# Altium integrated library STM32.IntLib: 732 symbols (part 11 of 99)
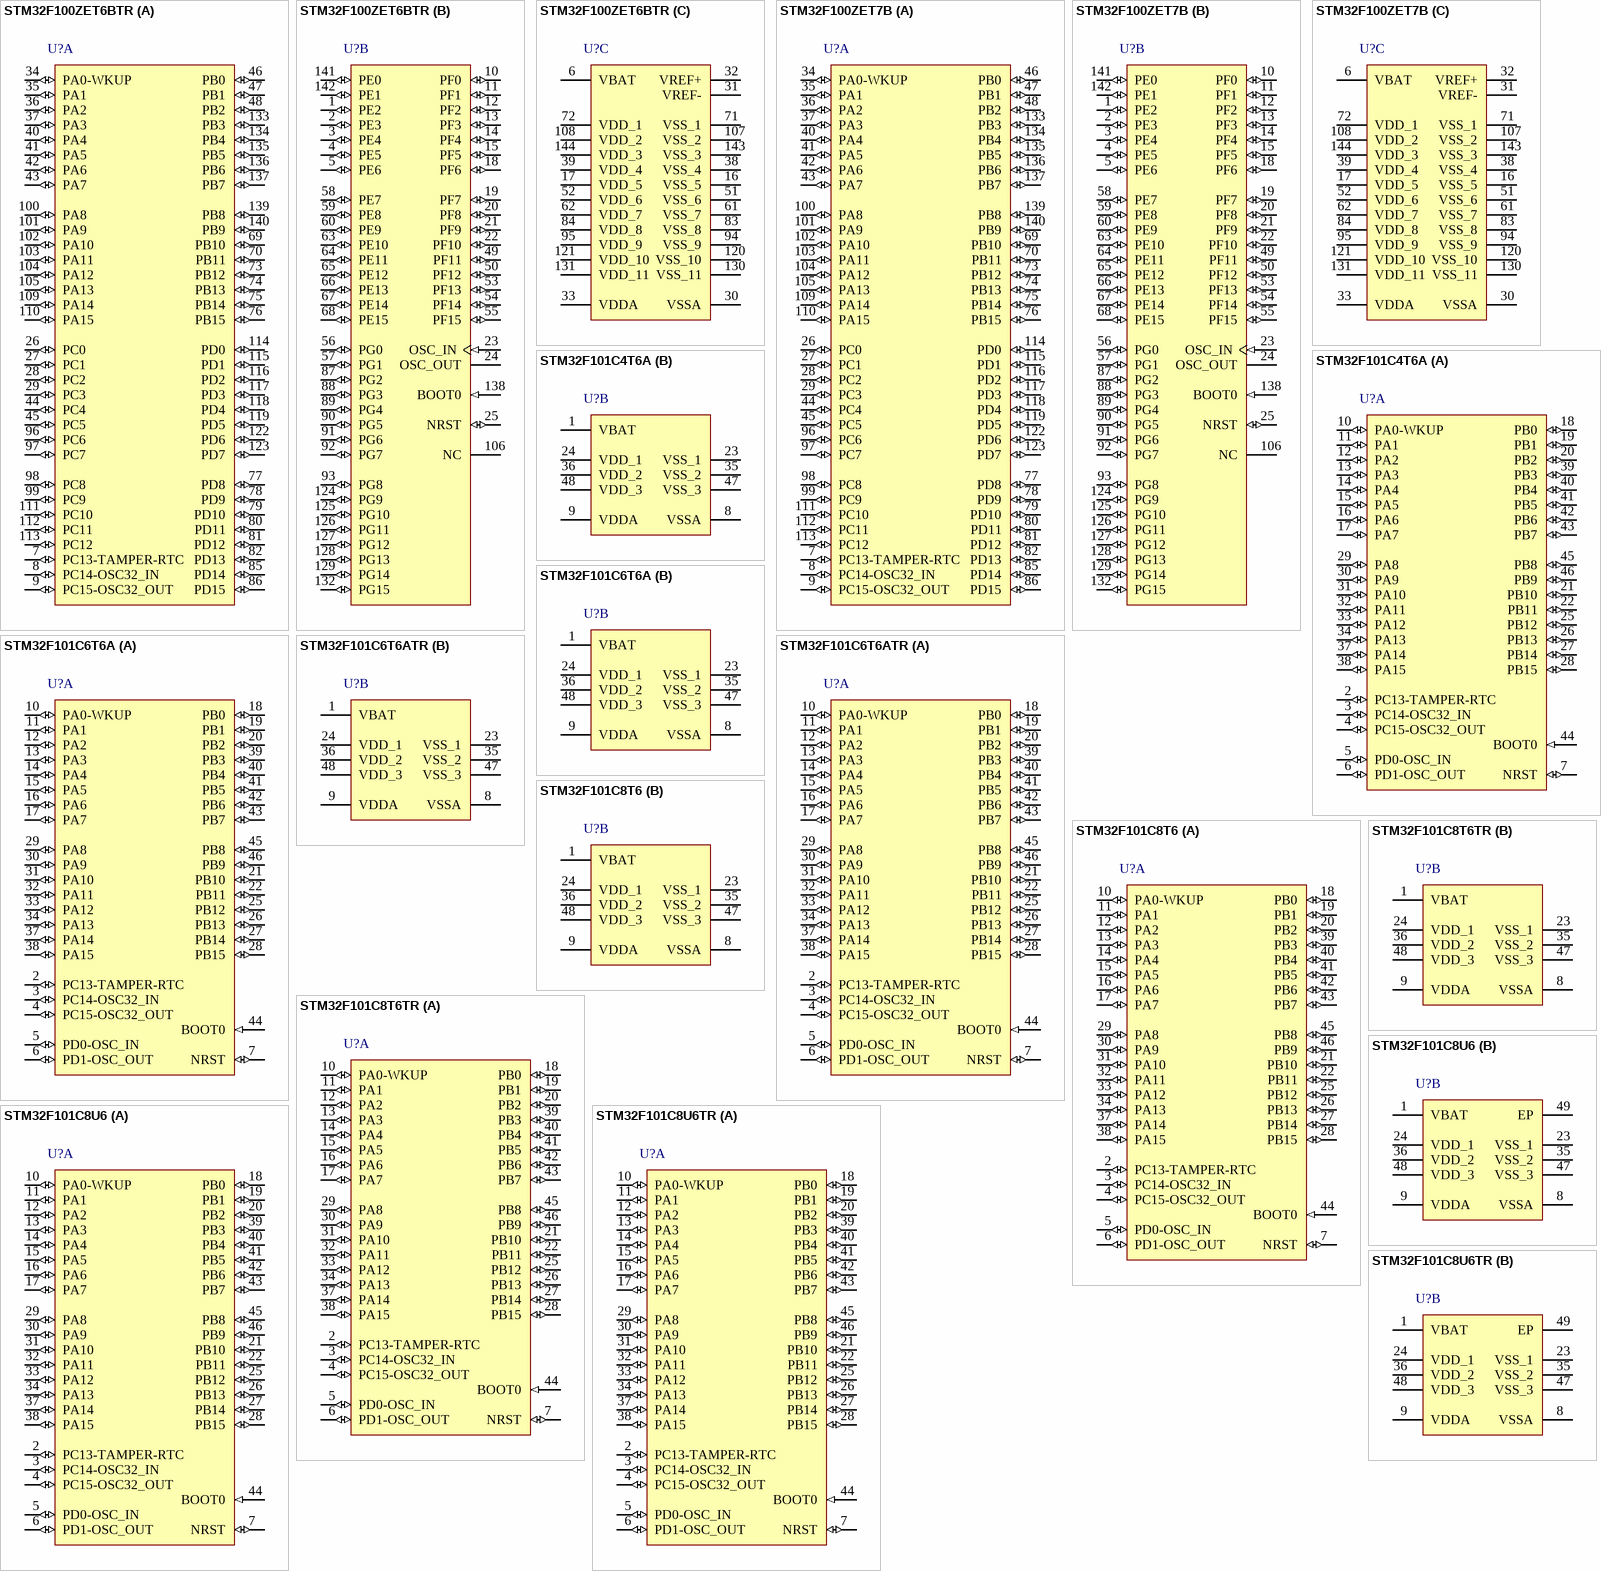
[diagram p164: symbols STM32F100ZET6BTR to STM32F101C8U6TR]

## STM32F101C8U6
designator U?
ARM Cortex-M3 32-bit MCU, 64 KB Flash, 10 KB Internal RAM, 37 I/Os, 48-pin UFQFPN, -40 to 85 degC, Tray; PartNumber: STM32F101C8U6; A/D Converter: 1x12-bit (10 Channel); FLASH Size (Prog) (kB): 64; I/Os (High Current): 37; Internal RAM Size (kB): 10; Operating Frequency(F) (Processor speed) (MHz): 36; Supply Voltage(Vcc) min (V): 2; DatasheetVersion: Rev. 16; PackageVersion: Rev. 1, 04/2013; PackageReference: UFQFPN48; PackageDescription: 48-Pin Ultra Thin Fine Pitch Quad Flat No-Lead, 7 x 7 x 0.6 mm Body, 0.5 mm Pitch, Exposed Pad; Supplier 1: Digi-Key; Supplier Part Number 1: 497-11506-ND; Supplier 2: Farnell; Supplier Part Number 2: 1899005; Supplier 3: Newark; Supplier Part Number 3: 72T2638; Supplier 4: Mouser; Supplier Part Number 4: 511-STM32F101C8U6; Core: ARM Cortex-M3; Packing: Tray; Mounting Technology: Surface Mount; ComponentLink1Description: Manufacturer URL; ComponentLink1URL: http://www.st.com/web/en/home.html; ComponentLink2Description: Datasheet; ComponentLink2URL: http://www.st.com/st-web-ui/static/active/en/resource/technical/document/datasheet/CD00161561.pdf; ComponentLink3Description: Package Specification; ComponentLink3URL: http://www.st.com/st-web-ui/static/active/en/resource/technical/document/data_brief/DM00071938.pdf
footprint STM-UFQFPN48_N (QFN, 48-Leads, Body 7.1x7.1mm, Pitch 0.5mm, Thermal Pad 5.6x5.6mm, IPC Medium Density)
footprint STM-UFQFPN48_L (QFN, 48-Leads, Body 7.1x7.1mm, Pitch 0.5mm, Thermal Pad 5.6x5.6mm, IPC High Density)
footprint STM-UFQFPN48_M (QFN, 48-Leads, Body 7.1x7.1mm, Pitch 0.5mm, Thermal Pad 5.6x5.6mm, IPC Low Density)
part A pins: 2 PC13-TAMPER-RTC (io) "PC13-TAMPER-RTC/PC13/TAMPER-RTC", 3 PC14-OSC32_IN (io) "PC14-OSC32_IN/PC14/OSC32_IN", 4 PC15-OSC32_OUT (io) "PC15-OSC32_OUT/PC15/OSC32_OUT", 5 PD0-OSC_IN (io) "PD0/OSC_IN", 6 PD1-OSC_OUT (io) "PD1/OSC_OUT", 7 NRST (io), 10 PA0-WKUP (io) "PA0-WKUP/PA0/WKUP/USART2_CTS/ADC_IN0/TIM2_CH1_ETR", 11 PA1 (io) "PA1/USART2_RTS/ADC_IN1/TIM2_CH2", 12 PA2 (io) "PA2/USART2_TX/ADC_IN2/TIM2_CH3", 13 PA3 (io) "PA3/USART2_RX/ADC_IN3/TIM2_CH4", 14 PA4 (io) "PA4/SPI1_NSS/ADC_IN4/USART2_CK", 15 PA5 (io) "PA5/SPI1_SCK/ADC_IN5", 16 PA6 (io) "PA6/SPI1_MISO/ADC_IN6/TIM3_CH1", 17 PA7 (io) "PA7/SPI1_MOSI/ADC_IN7/TIM3_CH2", 18 PB0 (io) "PB0/ADC_IN8/TIM3_CH3", 19 PB1 (io) "PB1/ADC_IN9/TIM3_CH4", 20 PB2 (io) "PB2/BOOT1", 21 PB10 (io) "PB10/I2C2_SCL/USART3_TX/TIM2_CH3", 22 PB11 (io) "PB11/I2C2_SDA/USART3_RX/TIM2_CH4", 25 PB12 (io) "PB12/SPI2_NSS/I2C2_SMBA/USART3_CK", 26 PB13 (io) "PB13/SPI2_SCK/USART3_CTS", 27 PB14 (io) "PB14/SPI2_MISO/USART3_RTS", 28 PB15 (io) "PB15/SPI2_MOSI", 29 PA8 (io) "PA8/USART1_CK/MCO", 30 PA9 (io) "PA9/USART1_TX", 31 PA10 (io) "PA10/USART1_RX", 32 PA11 (io) "PA11/USART1_CTS", 33 PA12 (io) "PA12/USART1_RTS", 34 PA13 (io) "PA13/JTMS-SWDIO", 37 PA14 (io) "PA14/JTCK/SWCLK", 38 PA15 (io) "PA15/JTDI/TIM2_CH1_ETR/SPI1_NSS", 39 PB3 (io) "PB3/JTDO/TIM2_CH2/TRACESWO/SPI1_SCK", 40 PB4 (io) "PB4/NJTRST/TIM3_CH1/SPI1_MISO", 41 PB5 (io) "PB5/I2C1_SMBAI/TIM3_CH2/SPI1_MOSI", 42 PB6 (io) "PB6/I2C1_SCL/TIM4_CH1/USART1_TX", 43 PB7 (io) "PB7/I2C1_SDA/TIM4_CH2/USART1_RX", 44 BOOT0 (in), 45 PB8 (io) "PB8/TIM4_CH3/I2C1_SCL", 46 PB9 (io) "PB9/TIM4_CH4/I2C1_SDA"
part B pins: 1 VBAT (power), 8 VSSA (power), 9 VDDA (power), 23 VSS_1 (power), 24 VDD_1 (power), 35 VSS_2 (power), 36 VDD_2 (power), 47 VSS_3 (power), 48 VDD_3 (power), 49 EP (power) "Exposed Pad"

## STM32F101C8U6TR
designator U?
ARM Cortex-M3 32-bit MCU, 64 KB Flash, 10 KB Internal RAM, 37 I/Os, 48-pin UFQFPN, -40 to 85 degC, Tape and Reel; PartNumber: STM32F101C8U6TR; A/D Converter: 1x12-bit (10 Channel); FLASH Size (Prog) (kB): 64; I/Os (High Current): 37; Internal RAM Size (kB): 10; Operating Frequency(F) (Processor speed) (MHz): 36; Supply Voltage(Vcc) min (V): 2; DatasheetVersion: Rev. 16; PackageVersion: Rev. 1, 04/2013; PackageReference: UFQFPN48; PackageDescription: 48-Pin Ultra Thin Fine Pitch Quad Flat No-Lead, 7 x 7 x 0.6 mm Body, 0.5 mm Pitch, Exposed Pad; Supplier 1: Digi-Key; Supplier Part Number 1: STM32F101C8U6TR-ND; Supplier 2: Mouser; Supplier Part Number 2: 511-STM32F101C8U6TR; Core: ARM Cortex-M3; Packing: Tape and Reel; Mounting Technology: Surface Mount; ComponentLink1Description: Manufacturer URL; ComponentLink1URL: http://www.st.com/web/en/home.html; ComponentLink2Description: Datasheet; ComponentLink2URL: http://www.st.com/st-web-ui/static/active/en/resource/technical/document/datasheet/CD00161561.pdf; ComponentLink3Description: Package Specification; ComponentLink3URL: http://www.st.com/st-web-ui/static/active/en/resource/technical/document/data_brief/DM00071938.pdf
footprint STM-UFQFPN48_N (QFN, 48-Leads, Body 7.1x7.1mm, Pitch 0.5mm, Thermal Pad 5.6x5.6mm, IPC Medium Density)
footprint STM-UFQFPN48_L (QFN, 48-Leads, Body 7.1x7.1mm, Pitch 0.5mm, Thermal Pad 5.6x5.6mm, IPC High Density)
footprint STM-UFQFPN48_M (QFN, 48-Leads, Body 7.1x7.1mm, Pitch 0.5mm, Thermal Pad 5.6x5.6mm, IPC Low Density)
part A pins: 2 PC13-TAMPER-RTC (io) "PC13-TAMPER-RTC/PC13/TAMPER-RTC", 3 PC14-OSC32_IN (io) "PC14-OSC32_IN/PC14/OSC32_IN", 4 PC15-OSC32_OUT (io) "PC15-OSC32_OUT/PC15/OSC32_OUT", 5 PD0-OSC_IN (io) "PD0/OSC_IN", 6 PD1-OSC_OUT (io) "PD1/OSC_OUT", 7 NRST (io), 10 PA0-WKUP (io) "PA0-WKUP/PA0/WKUP/USART2_CTS/ADC_IN0/TIM2_CH1_ETR", 11 PA1 (io) "PA1/USART2_RTS/ADC_IN1/TIM2_CH2", 12 PA2 (io) "PA2/USART2_TX/ADC_IN2/TIM2_CH3", 13 PA3 (io) "PA3/USART2_RX/ADC_IN3/TIM2_CH4", 14 PA4 (io) "PA4/SPI1_NSS/ADC_IN4/USART2_CK", 15 PA5 (io) "PA5/SPI1_SCK/ADC_IN5", 16 PA6 (io) "PA6/SPI1_MISO/ADC_IN6/TIM3_CH1", 17 PA7 (io) "PA7/SPI1_MOSI/ADC_IN7/TIM3_CH2", 18 PB0 (io) "PB0/ADC_IN8/TIM3_CH3", 19 PB1 (io) "PB1/ADC_IN9/TIM3_CH4", 20 PB2 (io) "PB2/BOOT1", 21 PB10 (io) "PB10/I2C2_SCL/USART3_TX/TIM2_CH3", 22 PB11 (io) "PB11/I2C2_SDA/USART3_RX/TIM2_CH4", 25 PB12 (io) "PB12/SPI2_NSS/I2C2_SMBA/USART3_CK", 26 PB13 (io) "PB13/SPI2_SCK/USART3_CTS", 27 PB14 (io) "PB14/SPI2_MISO/USART3_RTS", 28 PB15 (io) "PB15/SPI2_MOSI", 29 PA8 (io) "PA8/USART1_CK/MCO", 30 PA9 (io) "PA9/USART1_TX", 31 PA10 (io) "PA10/USART1_RX", 32 PA11 (io) "PA11/USART1_CTS", 33 PA12 (io) "PA12/USART1_RTS", 34 PA13 (io) "PA13/JTMS-SWDIO", 37 PA14 (io) "PA14/JTCK/SWCLK", 38 PA15 (io) "PA15/JTDI/TIM2_CH1_ETR/SPI1_NSS", 39 PB3 (io) "PB3/JTDO/TIM2_CH2/TRACESWO/SPI1_SCK", 40 PB4 (io) "PB4/NJTRST/TIM3_CH1/SPI1_MISO", 41 PB5 (io) "PB5/I2C1_SMBAI/TIM3_CH2/SPI1_MOSI", 42 PB6 (io) "PB6/I2C1_SCL/TIM4_CH1/USART1_TX", 43 PB7 (io) "PB7/I2C1_SDA/TIM4_CH2/USART1_RX", 44 BOOT0 (in), 45 PB8 (io) "PB8/TIM4_CH3/I2C1_SCL", 46 PB9 (io) "PB9/TIM4_CH4/I2C1_SDA"
part B pins: 1 VBAT (power), 8 VSSA (power), 9 VDDA (power), 23 VSS_1 (power), 24 VDD_1 (power), 35 VSS_2 (power), 36 VDD_2 (power), 47 VSS_3 (power), 48 VDD_3 (power), 49 EP (power) "Exposed Pad"

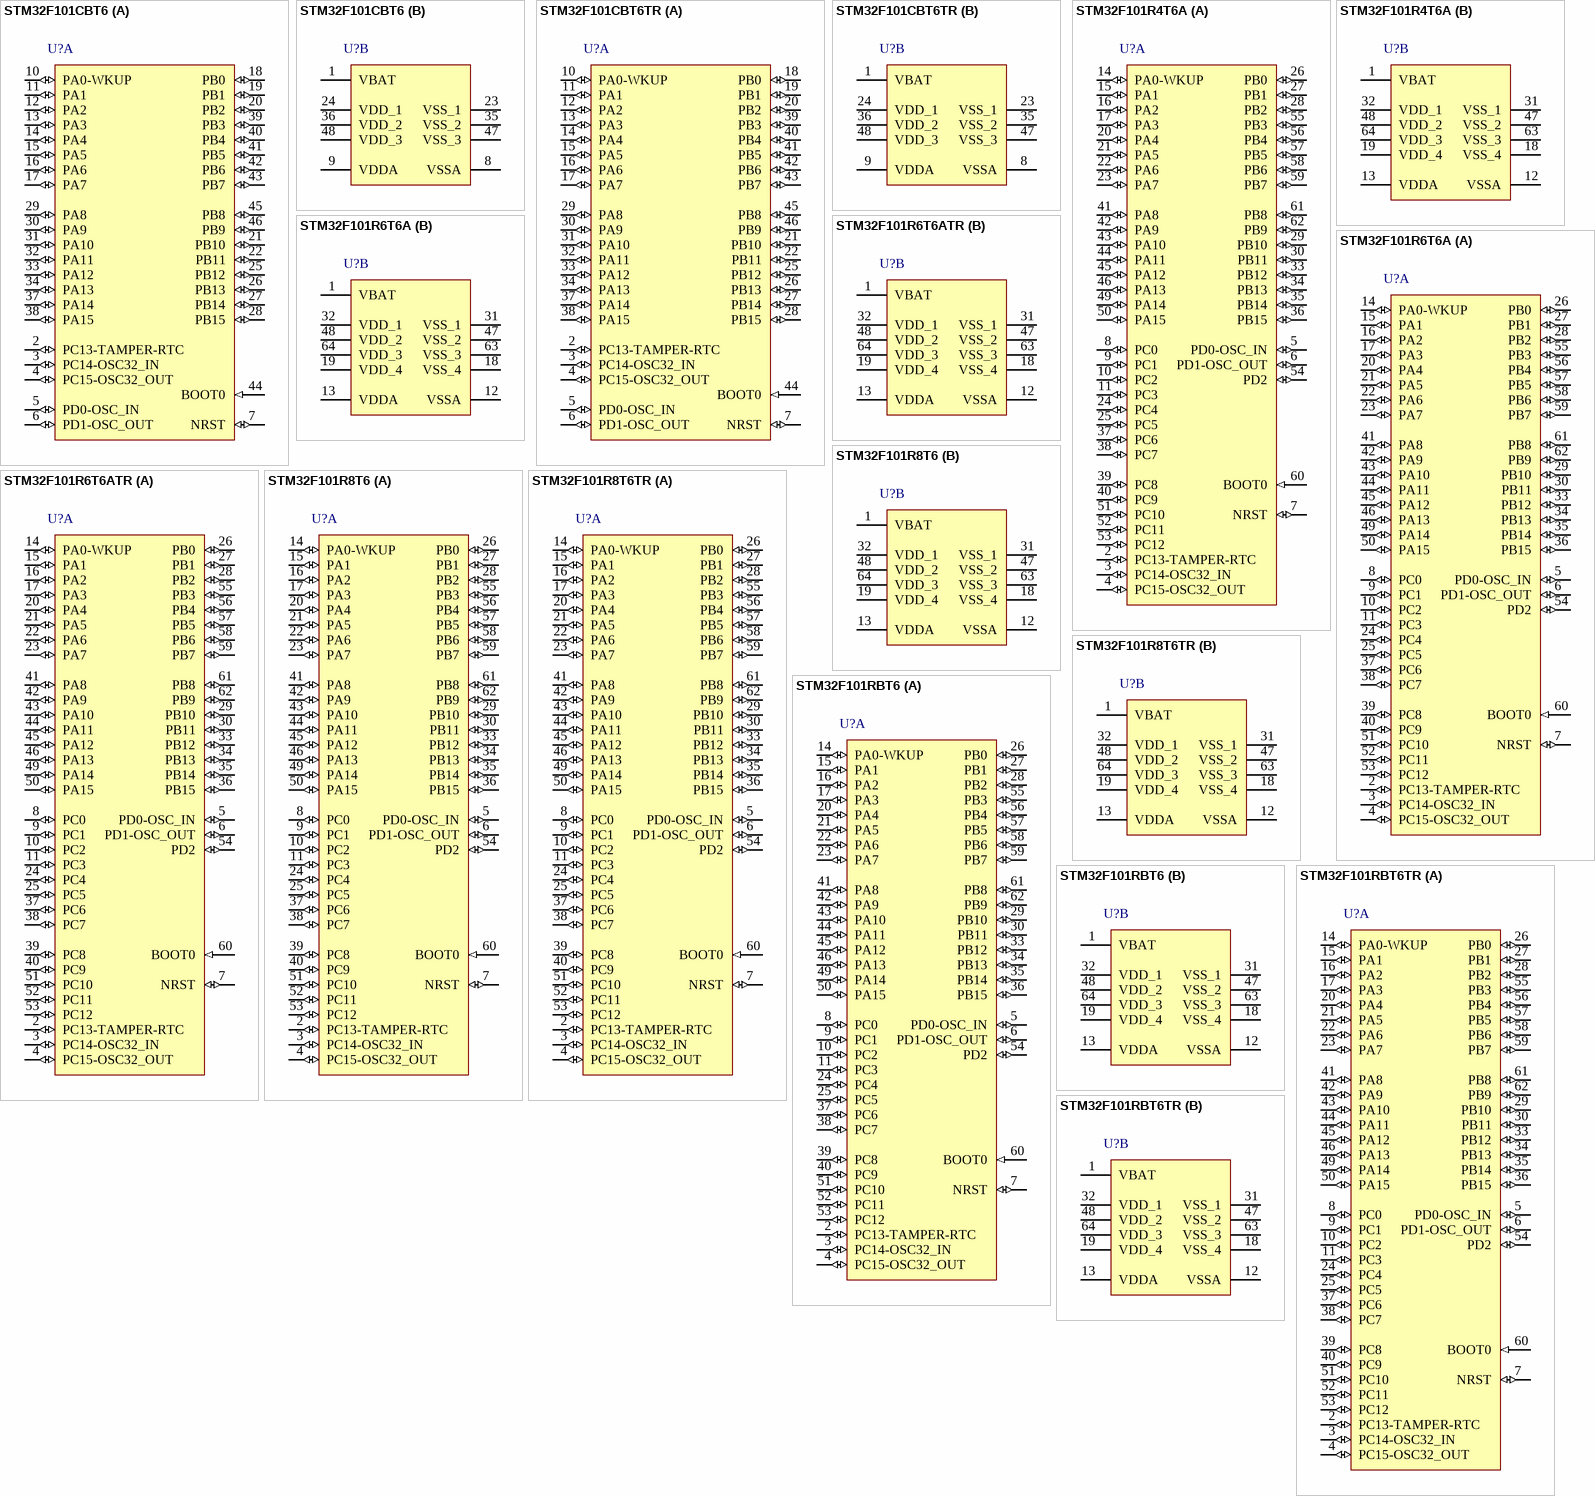
[diagram p16: symbols STM32F101CBT6 to STM32F101RBT6TR]

## STM32F101CBT6
designator U?
ARM Cortex-M3 32-bit MCU, 128 KB Flash, 16 KB Internal RAM, 37 I/Os, 48-pin LQFP, -40 to 85 degC, Tray; PartNumber: STM32F101CBT6; A/D Converter: 1x12-bit (10 Channel); FLASH Size (Prog) (kB): 128; I/Os (High Current): 37; Internal RAM Size (kB): 16; Operating Frequency(F) (Processor speed) (MHz): 36; Supply Voltage(Vcc) min (V): 2; DatasheetVersion: Rev. 16; PackageVersion: Rev. 6, 06/2013; PackageReference: LQFP48; PackageDescription: 48-Pin Low Profile Quad Flat Package, 7 x 7 mm Body, 0.5 mm Pitch; Supplier 1: Digi-Key; Supplier Part Number 1: 497-6287-ND; Supplier 2: Newark; Supplier Part Number 2: 11N8293; Supplier 3: Mouser; Supplier Part Number 3: 511-STM32F101CBT6; Core: ARM Cortex-M3; Packing: Tray; Mounting Technology: Surface Mount; ComponentLink1Description: Manufacturer URL; ComponentLink1URL: http://www.st.com/web/en/home.html; ComponentLink2Description: Datasheet; ComponentLink2URL: http://www.st.com/st-web-ui/static/active/en/resource/technical/document/datasheet/CD00161561.pdf; ComponentLink3Description: Package Specification; ComponentLink3URL: http://www.st.com/st-web-ui/static/active/en/resource/technical/document/datasheet/DM00058181.pdf
footprint STM-LQFP48_N (QFP, 48-Leads, Body 7x7mm, Pitch 0.5mm, IPC Medium Density)
footprint STM-LQFP48_L (QFP, 48-Leads, Body 7x7mm, Pitch 0.5mm, IPC High Density)
footprint STM-LQFP48_M (QFP, 48-Leads, Body 7x7mm, Pitch 0.5mm, IPC Low Density)
part A pins: 2 PC13-TAMPER-RTC (io) "PC13-TAMPER-RTC/PC13/TAMPER-RTC", 3 PC14-OSC32_IN (io) "PC14-OSC32_IN/PC14/OSC32_IN", 4 PC15-OSC32_OUT (io) "PC15-OSC32_OUT/PC15/OSC32_OUT", 5 PD0-OSC_IN (io) "PD0/OSC_IN", 6 PD1-OSC_OUT (io) "PD1/OSC_OUT", 7 NRST (io), 10 PA0-WKUP (io) "PA0-WKUP/PA0/WKUP/USART2_CTS/ADC_IN0/TIM2_CH1_ETR", 11 PA1 (io) "PA1/USART2_RTS/ADC_IN1/TIM2_CH2", 12 PA2 (io) "PA2/USART2_TX/ADC_IN2/TIM2_CH3", 13 PA3 (io) "PA3/USART2_RX/ADC_IN3/TIM2_CH4", 14 PA4 (io) "PA4/SPI1_NSS/ADC_IN4/USART2_CK", 15 PA5 (io) "PA5/SPI1_SCK/ADC_IN5", 16 PA6 (io) "PA6/SPI1_MISO/ADC_IN6/TIM3_CH1", 17 PA7 (io) "PA7/SPI1_MOSI/ADC_IN7/TIM3_CH2", 18 PB0 (io) "PB0/ADC_IN8/TIM3_CH3", 19 PB1 (io) "PB1/ADC_IN9/TIM3_CH4", 20 PB2 (io) "PB2/BOOT1", 21 PB10 (io) "PB10/I2C2_SCL/USART3_TX/TIM2_CH3", 22 PB11 (io) "PB11/I2C2_SDA/USART3_RX/TIM2_CH4", 25 PB12 (io) "PB12/SPI2_NSS/I2C2_SMBA/USART3_CK", 26 PB13 (io) "PB13/SPI2_SCK/USART3_CTS", 27 PB14 (io) "PB14/SPI2_MISO/USART3_RTS", 28 PB15 (io) "PB15/SPI2_MOSI", 29 PA8 (io) "PA8/USART1_CK/MCO", 30 PA9 (io) "PA9/USART1_TX", 31 PA10 (io) "PA10/USART1_RX", 32 PA11 (io) "PA11/USART1_CTS", 33 PA12 (io) "PA12/USART1_RTS", 34 PA13 (io) "PA13/JTMS-SWDIO", 37 PA14 (io) "PA14/JTCK/SWCLK", 38 PA15 (io) "PA15/JTDI/TIM2_CH1_ETR/SPI1_NSS", 39 PB3 (io) "PB3/JTDO/TIM2_CH2/TRACESWO/SPI1_SCK", 40 PB4 (io) "PB4/NJTRST/TIM3_CH1/SPI1_MISO", 41 PB5 (io) "PB5/I2C1_SMBAI/TIM3_CH2/SPI1_MOSI", 42 PB6 (io) "PB6/I2C1_SCL/TIM4_CH1/USART1_TX", 43 PB7 (io) "PB7/I2C1_SDA/TIM4_CH2/USART1_RX", 44 BOOT0 (in), 45 PB8 (io) "PB8/TIM4_CH3/I2C1_SCL", 46 PB9 (io) "PB9/TIM4_CH4/I2C1_SDA"
part B pins: 1 VBAT (power), 8 VSSA (power), 9 VDDA (power), 23 VSS_1 (power), 24 VDD_1 (power), 35 VSS_2 (power), 36 VDD_2 (power), 47 VSS_3 (power), 48 VDD_3 (power)

## STM32F101CBT6TR
designator U?
ARM Cortex-M3 32-bit MCU, 128 KB Flash, 16 KB Internal RAM, 37 I/Os, 48-pin LQFP, -40 to 85 degC, Tape and Reel; PartNumber: STM32F101CBT6TR; A/D Converter: 1x12-bit (10 Channel); FLASH Size (Prog) (kB): 128; I/Os (High Current): 37; Internal RAM Size (kB): 16; Operating Frequency(F) (Processor speed) (MHz): 36; Supply Voltage(Vcc) min (V): 2; DatasheetVersion: Rev. 16; PackageVersion: Rev. 6, 06/2013; PackageReference: LQFP48; PackageDescription: 48-Pin Low Profile Quad Flat Package, 7 x 7 mm Body, 0.5 mm Pitch; Supplier 1: Digi-Key; Supplier Part Number 1: STM32F101CBT6TR-ND; Supplier 2: Newark; Supplier Part Number 2: 57P1180; Supplier 3: Mouser; Supplier Part Number 3: 511-STM32F101CBT6TR; Core: ARM Cortex-M3; Packing: Tape and Reel; Mounting Technology: Surface Mount; ComponentLink1Description: Manufacturer URL; ComponentLink1URL: http://www.st.com/web/en/home.html; ComponentLink2Description: Datasheet; ComponentLink2URL: http://www.st.com/st-web-ui/static/active/en/resource/technical/document/datasheet/CD00161561.pdf; ComponentLink3Description: Package Specification; ComponentLink3URL: http://www.st.com/st-web-ui/static/active/en/resource/technical/document/datasheet/DM00058181.pdf
footprint STM-LQFP48_N (QFP, 48-Leads, Body 7x7mm, Pitch 0.5mm, IPC Medium Density)
footprint STM-LQFP48_L (QFP, 48-Leads, Body 7x7mm, Pitch 0.5mm, IPC High Density)
footprint STM-LQFP48_M (QFP, 48-Leads, Body 7x7mm, Pitch 0.5mm, IPC Low Density)
part A pins: 2 PC13-TAMPER-RTC (io) "PC13-TAMPER-RTC/PC13/TAMPER-RTC", 3 PC14-OSC32_IN (io) "PC14-OSC32_IN/PC14/OSC32_IN", 4 PC15-OSC32_OUT (io) "PC15-OSC32_OUT/PC15/OSC32_OUT", 5 PD0-OSC_IN (io) "PD0/OSC_IN", 6 PD1-OSC_OUT (io) "PD1/OSC_OUT", 7 NRST (io), 10 PA0-WKUP (io) "PA0-WKUP/PA0/WKUP/USART2_CTS/ADC_IN0/TIM2_CH1_ETR", 11 PA1 (io) "PA1/USART2_RTS/ADC_IN1/TIM2_CH2", 12 PA2 (io) "PA2/USART2_TX/ADC_IN2/TIM2_CH3", 13 PA3 (io) "PA3/USART2_RX/ADC_IN3/TIM2_CH4", 14 PA4 (io) "PA4/SPI1_NSS/ADC_IN4/USART2_CK", 15 PA5 (io) "PA5/SPI1_SCK/ADC_IN5", 16 PA6 (io) "PA6/SPI1_MISO/ADC_IN6/TIM3_CH1", 17 PA7 (io) "PA7/SPI1_MOSI/ADC_IN7/TIM3_CH2", 18 PB0 (io) "PB0/ADC_IN8/TIM3_CH3", 19 PB1 (io) "PB1/ADC_IN9/TIM3_CH4", 20 PB2 (io) "PB2/BOOT1", 21 PB10 (io) "PB10/I2C2_SCL/USART3_TX/TIM2_CH3", 22 PB11 (io) "PB11/I2C2_SDA/USART3_RX/TIM2_CH4", 25 PB12 (io) "PB12/SPI2_NSS/I2C2_SMBA/USART3_CK", 26 PB13 (io) "PB13/SPI2_SCK/USART3_CTS", 27 PB14 (io) "PB14/SPI2_MISO/USART3_RTS", 28 PB15 (io) "PB15/SPI2_MOSI", 29 PA8 (io) "PA8/USART1_CK/MCO", 30 PA9 (io) "PA9/USART1_TX", 31 PA10 (io) "PA10/USART1_RX", 32 PA11 (io) "PA11/USART1_CTS", 33 PA12 (io) "PA12/USART1_RTS", 34 PA13 (io) "PA13/JTMS-SWDIO", 37 PA14 (io) "PA14/JTCK/SWCLK", 38 PA15 (io) "PA15/JTDI/TIM2_CH1_ETR/SPI1_NSS", 39 PB3 (io) "PB3/JTDO/TIM2_CH2/TRACESWO/SPI1_SCK", 40 PB4 (io) "PB4/NJTRST/TIM3_CH1/SPI1_MISO", 41 PB5 (io) "PB5/I2C1_SMBAI/TIM3_CH2/SPI1_MOSI", 42 PB6 (io) "PB6/I2C1_SCL/TIM4_CH1/USART1_TX", 43 PB7 (io) "PB7/I2C1_SDA/TIM4_CH2/USART1_RX", 44 BOOT0 (in), 45 PB8 (io) "PB8/TIM4_CH3/I2C1_SCL", 46 PB9 (io) "PB9/TIM4_CH4/I2C1_SDA"
part B pins: 1 VBAT (power), 8 VSSA (power), 9 VDDA (power), 23 VSS_1 (power), 24 VDD_1 (power), 35 VSS_2 (power), 36 VDD_2 (power), 47 VSS_3 (power), 48 VDD_3 (power)

## STM32F101R4T6A
designator U?
ARM Cortex-M3 32-bit MCU, 16 KB Flash, 4 KB Internal RAM, 51 I/Os, 64-pin LQFP, -40 to 85 degC, Tray; PartNumber: STM32F101R4T6A; A/D Converter: 1x12-bit (16 Channel); FLASH Size (Prog) (kB): 16; I/Os (High Current): 51; Internal RAM Size (kB): 4; Operating Frequency(F) (Processor speed) (MHz): 36; Supply Voltage(Vcc) min (V): 2; DatasheetVersion: Rev. 5; PackageVersion: Rev. 4, 06/2013; PackageReference: LQFP64; PackageDescription: 64-Pin Low Profile Quad Flat Package, 10 x 10 mm Body, 0.5 mm Pitch; Supplier 1: Digi-Key; Supplier Part Number 1: 497-8314-ND; Supplier 2: Farnell; Supplier Part Number 2: 1899011; Supplier 3: Mouser; Supplier Part Number 3: 511-STM32F101R4T6A; Core: ARM Cortex-M3; Packing: Tray; Mounting Technology: Surface Mount; ComponentLink1Description: Manufacturer URL; ComponentLink1URL: http://www.st.com/web/en/home.html; ComponentLink2Description: Datasheet; ComponentLink2URL: http://www.st.com/st-web-ui/static/active/en/resource/technical/document/datasheet/CD00210837.pdf; ComponentLink3Description: Package Specification; ComponentLink3URL: http://www.st.com/st-web-ui/static/active/en/resource/technical/document/datasheet/DM00037051.pdf
footprint STM-LQFP64_N (Thin QFP, 64-Leads, Body 10x10mm, Pitch 0.5mm, IPC Medium Density)
footprint STM-LQFP64_L (Thin QFP, 64-Leads, Body 10x10mm, Pitch 0.5mm, IPC High Density)
footprint STM-LQFP64_M (Thin QFP, 64-Leads, Body 10x10mm, Pitch 0.5mm, IPC Low Density)
footprint STM-LQFP64_V (Thin QFP, 64-Leads, Body 10x10mm, Pitch 0.5mm, ST Recommended)
part A pins: 2 PC13-TAMPER-RTC (io) "PC13-TAMPER-RTC/PC13/TAMPER-RTC", 3 PC14-OSC32_IN (io) "PC14-OSC32_IN/PC14/OSC32_IN", 4 PC15-OSC32_OUT (io) "PC15-OSC32_OUT/PC15/OSC32_OUT", 5 PD0-OSC_IN (io) "PD0/OSC_IN", 6 PD1-OSC_OUT (io) "PD1/OSC_OUT", 7 NRST (io), 8 PC0 (io) "PC0/ADC_IN10", 9 PC1 (io) "PC1/ADC_IN11", 10 PC2 (io) "PC2/ADC_IN12", 11 PC3 (io) "PC3/ADC_IN13", 14 PA0-WKUP (io) "PA0-WKUP/PA0/WKUP/USART2_CTS/ADC_IN0/TIM2_CH1_ETR", 15 PA1 (io) "PA1/USART2_RTS/ADC_IN1/TIM2_CH2", 16 PA2 (io) "PA2/USART2_TX/ADC_IN2/TIM2_CH3", 17 PA3 (io) "PA3/USART2_RX/ADC_IN3/TIM2_CH4", 20 PA4 (io) "PA4/SPI_NSS/ADC_IN4/USART2_CK", 21 PA5 (io) "PA5/SPI_SCK/ADC_IN5", 22 PA6 (io) "PA6/SPI_MISO/ADC_IN6/TIM3_CH1", 23 PA7 (io) "PA7/SPI_MOSI/ADC_IN7/TIM3_CH2", 24 PC4 (io) "PC4/ADC_IN14", 25 PC5 (io) "PC5/ADC_IN15", 26 PB0 (io) "PB0/ADC_IN8/TIM3_CH3", 27 PB1 (io) "PB1/ADC_IN9/TIM3_CH4", 28 PB2 (io) "PB2/BOOT1", 29 PB10 (io) "PB10/TIM2_CH3", 30 PB11 (io) "PB11/TIM2_CH4", 33 PB12 (io), 34 PB13 (io), 35 PB14 (io), 36 PB15 (io), 37 PC6 (io) "PC6/TIM3_CH1", 38 PC7 (io) "PC7/TIM3_CH2", 39 PC8 (io) "PC8/TIM3_CH3", 40 PC9 (io) "PC9/TIM3_CH4", 41 PA8 (io) "PA8/USART1_CK/MCO", 42 PA9 (io) "PA9/USART1_TX", 43 PA10 (io) "PA10/USART1_RX", 44 PA11 (io) "PA11/USART1_CTS", 45 PA12 (io) "PA12/USART1_RTS", 46 PA13 (io) "PA13/JTMS-SWDIO", 49 PA14 (io) "PA14/JTCK/SWCLK", 50 PA15 (io) "PA15/JTDI/TIM2_CH1_ETR/SPI_NSS", 51 PC10 (io), 52 PC11 (io), 53 PC12 (io), 54 PD2 (io) "PD2/TIM3_ETR", 55 PB3 (io) "PB3/JTDO/TIM2_CH2/TRACESWO/SPI_SCK", 56 PB4 (io) "PB4/NJTRST/TIM3_CH1/SPI_MISO", 57 PB5 (io) "PB5/I2C_SMBA/TIM3_CH2/SPI_MOSI", 58 PB6 (io) "PB6/I2C_SCL/USART1_TX", 59 PB7 (io) "PB7/I2C_SDA/USART1_RX", 60 BOOT0 (in), 61 PB8 (io) "PB8/I2C_SCL", 62 PB9 (io) "PB9/I2C_SDA"
part B pins: 1 VBAT (power), 12 VSSA (power), 13 VDDA (power), 18 VSS_4 (power), 19 VDD_4 (power), 31 VSS_1 (power), 32 VDD_1 (power), 47 VSS_2 (power), 48 VDD_2 (power), 63 VSS_3 (power), 64 VDD_3 (power)

## STM32F101R6T6A
designator U?
ARM Cortex-M3 32-bit MCU, 32 KB Flash, 6 KB Internal RAM, 51 I/Os, 64-pin LQFP, -40 to 85 degC, Tray; PartNumber: STM32F101R6T6A; A/D Converter: 1x12-bit (16 Channel); FLASH Size (Prog) (kB): 32; I/Os (High Current): 51; Internal RAM Size (kB): 6; Operating Frequency(F) (Processor speed) (MHz): 36; Supply Voltage(Vcc) min (V): 2; DatasheetVersion: Rev. 5; PackageVersion: Rev. 4, 06/2013; PackageReference: LQFP64; PackageDescription: 64-Pin Low Profile Quad Flat Package, 10 x 10 mm Body, 0.5 mm Pitch; Supplier 1: Digi-Key; Supplier Part Number 1: 497-11507-ND; Supplier 2: Farnell; Supplier Part Number 2: 1899012; Supplier 3: Newark; Supplier Part Number 3: 57P1193; Supplier 4: Mouser; Supplier Part Number 4: 511-STM32F101R6T6A; Core: ARM Cortex-M3; Packing: Tray; Mounting Technology: Surface Mount; ComponentLink1Description: Manufacturer URL; ComponentLink1URL: http://www.st.com/web/en/home.html; ComponentLink2Description: Datasheet; ComponentLink2URL: http://www.st.com/st-web-ui/static/active/en/resource/technical/document/datasheet/CD00210837.pdf; ComponentLink3Description: Package Specification; ComponentLink3URL: http://www.st.com/st-web-ui/static/active/en/resource/technical/document/datasheet/DM00037051.pdf
footprint STM-LQFP64_N (Thin QFP, 64-Leads, Body 10x10mm, Pitch 0.5mm, IPC Medium Density)
footprint STM-LQFP64_L (Thin QFP, 64-Leads, Body 10x10mm, Pitch 0.5mm, IPC High Density)
footprint STM-LQFP64_M (Thin QFP, 64-Leads, Body 10x10mm, Pitch 0.5mm, IPC Low Density)
footprint STM-LQFP64_V (Thin QFP, 64-Leads, Body 10x10mm, Pitch 0.5mm, ST Recommended)
part A pins: 2 PC13-TAMPER-RTC (io) "PC13-TAMPER-RTC/PC13/TAMPER-RTC", 3 PC14-OSC32_IN (io) "PC14-OSC32_IN/PC14/OSC32_IN", 4 PC15-OSC32_OUT (io) "PC15-OSC32_OUT/PC15/OSC32_OUT", 5 PD0-OSC_IN (io) "PD0/OSC_IN", 6 PD1-OSC_OUT (io) "PD1/OSC_OUT", 7 NRST (io), 8 PC0 (io) "PC0/ADC_IN10", 9 PC1 (io) "PC1/ADC_IN11", 10 PC2 (io) "PC2/ADC_IN12", 11 PC3 (io) "PC3/ADC_IN13", 14 PA0-WKUP (io) "PA0-WKUP/PA0/WKUP/USART2_CTS/ADC_IN0/TIM2_CH1_ETR", 15 PA1 (io) "PA1/USART2_RTS/ADC_IN1/TIM2_CH2", 16 PA2 (io) "PA2/USART2_TX/ADC_IN2/TIM2_CH3", 17 PA3 (io) "PA3/USART2_RX/ADC_IN3/TIM2_CH4", 20 PA4 (io) "PA4/SPI_NSS/ADC_IN4/USART2_CK", 21 PA5 (io) "PA5/SPI_SCK/ADC_IN5", 22 PA6 (io) "PA6/SPI_MISO/ADC_IN6/TIM3_CH1", 23 PA7 (io) "PA7/SPI_MOSI/ADC_IN7/TIM3_CH2", 24 PC4 (io) "PC4/ADC_IN14", 25 PC5 (io) "PC5/ADC_IN15", 26 PB0 (io) "PB0/ADC_IN8/TIM3_CH3", 27 PB1 (io) "PB1/ADC_IN9/TIM3_CH4", 28 PB2 (io) "PB2/BOOT1", 29 PB10 (io) "PB10/TIM2_CH3", 30 PB11 (io) "PB11/TIM2_CH4", 33 PB12 (io), 34 PB13 (io), 35 PB14 (io), 36 PB15 (io), 37 PC6 (io) "PC6/TIM3_CH1", 38 PC7 (io) "PC7/TIM3_CH2", 39 PC8 (io) "PC8/TIM3_CH3", 40 PC9 (io) "PC9/TIM3_CH4", 41 PA8 (io) "PA8/USART1_CK/MCO", 42 PA9 (io) "PA9/USART1_TX", 43 PA10 (io) "PA10/USART1_RX", 44 PA11 (io) "PA11/USART1_CTS", 45 PA12 (io) "PA12/USART1_RTS", 46 PA13 (io) "PA13/JTMS-SWDIO", 49 PA14 (io) "PA14/JTCK/SWCLK", 50 PA15 (io) "PA15/JTDI/TIM2_CH1_ETR/SPI_NSS", 51 PC10 (io), 52 PC11 (io), 53 PC12 (io), 54 PD2 (io) "PD2/TIM3_ETR", 55 PB3 (io) "PB3/JTDO/TIM2_CH2/TRACESWO/SPI_SCK", 56 PB4 (io) "PB4/NJTRST/TIM3_CH1/SPI_MISO", 57 PB5 (io) "PB5/I2C_SMBA/TIM3_CH2/SPI_MOSI", 58 PB6 (io) "PB6/I2C_SCL/USART1_TX", 59 PB7 (io) "PB7/I2C_SDA/USART1_RX", 60 BOOT0 (in), 61 PB8 (io) "PB8/I2C_SCL", 62 PB9 (io) "PB9/I2C_SDA"
part B pins: 1 VBAT (power), 12 VSSA (power), 13 VDDA (power), 18 VSS_4 (power), 19 VDD_4 (power), 31 VSS_1 (power), 32 VDD_1 (power), 47 VSS_2 (power), 48 VDD_2 (power), 63 VSS_3 (power), 64 VDD_3 (power)

## STM32F101R6T6ATR
designator U?
ARM Cortex-M3 32-bit MCU, 32 KB Flash, 6 KB Internal RAM, 51 I/Os, 64-pin LQFP, -40 to 85 degC, Tape and Reel; PartNumber: STM32F101R6T6ATR; A/D Converter: 1x12-bit (16 Channel); FLASH Size (Prog) (kB): 32; I/Os (High Current): 51; Internal RAM Size (kB): 6; Operating Frequency(F) (Processor speed) (MHz): 36; Supply Voltage(Vcc) min (V): 2; DatasheetVersion: Rev. 5; PackageVersion: Rev. 4, 06/2013; PackageReference: LQFP64; PackageDescription: 64-Pin Low Profile Quad Flat Package, 10 x 10 mm Body, 0.5 mm Pitch; Supplier 1: Digi-Key; Supplier Part Number 1: STM32F101R6T6ATR-ND; Supplier 2: Mouser; Supplier Part Number 2: 511-STM32F101R6T6ATR; Core: ARM Cortex-M3; Packing: Tape and Reel; Mounting Technology: Surface Mount; ComponentLink1Description: Manufacturer URL; ComponentLink1URL: http://www.st.com/web/en/home.html; ComponentLink2Description: Datasheet; ComponentLink2URL: http://www.st.com/st-web-ui/static/active/en/resource/technical/document/datasheet/CD00210837.pdf; ComponentLink3Description: Package Specification; ComponentLink3URL: http://www.st.com/st-web-ui/static/active/en/resource/technical/document/datasheet/DM00037051.pdf
footprint STM-LQFP64_N (Thin QFP, 64-Leads, Body 10x10mm, Pitch 0.5mm, IPC Medium Density)
footprint STM-LQFP64_L (Thin QFP, 64-Leads, Body 10x10mm, Pitch 0.5mm, IPC High Density)
footprint STM-LQFP64_M (Thin QFP, 64-Leads, Body 10x10mm, Pitch 0.5mm, IPC Low Density)
footprint STM-LQFP64_V (Thin QFP, 64-Leads, Body 10x10mm, Pitch 0.5mm, ST Recommended)
part A pins: 2 PC13-TAMPER-RTC (io) "PC13-TAMPER-RTC/PC13/TAMPER-RTC", 3 PC14-OSC32_IN (io) "PC14-OSC32_IN/PC14/OSC32_IN", 4 PC15-OSC32_OUT (io) "PC15-OSC32_OUT/PC15/OSC32_OUT", 5 PD0-OSC_IN (io) "PD0/OSC_IN", 6 PD1-OSC_OUT (io) "PD1/OSC_OUT", 7 NRST (io), 8 PC0 (io) "PC0/ADC_IN10", 9 PC1 (io) "PC1/ADC_IN11", 10 PC2 (io) "PC2/ADC_IN12", 11 PC3 (io) "PC3/ADC_IN13", 14 PA0-WKUP (io) "PA0-WKUP/PA0/WKUP/USART2_CTS/ADC_IN0/TIM2_CH1_ETR", 15 PA1 (io) "PA1/USART2_RTS/ADC_IN1/TIM2_CH2", 16 PA2 (io) "PA2/USART2_TX/ADC_IN2/TIM2_CH3", 17 PA3 (io) "PA3/USART2_RX/ADC_IN3/TIM2_CH4", 20 PA4 (io) "PA4/SPI_NSS/ADC_IN4/USART2_CK", 21 PA5 (io) "PA5/SPI_SCK/ADC_IN5", 22 PA6 (io) "PA6/SPI_MISO/ADC_IN6/TIM3_CH1", 23 PA7 (io) "PA7/SPI_MOSI/ADC_IN7/TIM3_CH2", 24 PC4 (io) "PC4/ADC_IN14", 25 PC5 (io) "PC5/ADC_IN15", 26 PB0 (io) "PB0/ADC_IN8/TIM3_CH3", 27 PB1 (io) "PB1/ADC_IN9/TIM3_CH4", 28 PB2 (io) "PB2/BOOT1", 29 PB10 (io) "PB10/TIM2_CH3", 30 PB11 (io) "PB11/TIM2_CH4", 33 PB12 (io), 34 PB13 (io), 35 PB14 (io), 36 PB15 (io), 37 PC6 (io) "PC6/TIM3_CH1", 38 PC7 (io) "PC7/TIM3_CH2", 39 PC8 (io) "PC8/TIM3_CH3", 40 PC9 (io) "PC9/TIM3_CH4", 41 PA8 (io) "PA8/USART1_CK/MCO", 42 PA9 (io) "PA9/USART1_TX", 43 PA10 (io) "PA10/USART1_RX", 44 PA11 (io) "PA11/USART1_CTS", 45 PA12 (io) "PA12/USART1_RTS", 46 PA13 (io) "PA13/JTMS-SWDIO", 49 PA14 (io) "PA14/JTCK/SWCLK", 50 PA15 (io) "PA15/JTDI/TIM2_CH1_ETR/SPI_NSS", 51 PC10 (io), 52 PC11 (io), 53 PC12 (io), 54 PD2 (io) "PD2/TIM3_ETR", 55 PB3 (io) "PB3/JTDO/TIM2_CH2/TRACESWO/SPI_SCK", 56 PB4 (io) "PB4/NJTRST/TIM3_CH1/SPI_MISO", 57 PB5 (io) "PB5/I2C_SMBA/TIM3_CH2/SPI_MOSI", 58 PB6 (io) "PB6/I2C_SCL/USART1_TX", 59 PB7 (io) "PB7/I2C_SDA/USART1_RX", 60 BOOT0 (in), 61 PB8 (io) "PB8/I2C_SCL", 62 PB9 (io) "PB9/I2C_SDA"
part B pins: 1 VBAT (power), 12 VSSA (power), 13 VDDA (power), 18 VSS_4 (power), 19 VDD_4 (power), 31 VSS_1 (power), 32 VDD_1 (power), 47 VSS_2 (power), 48 VDD_2 (power), 63 VSS_3 (power), 64 VDD_3 (power)

## STM32F101R8T6
designator U?
ARM Cortex-M3 32-bit MCU, 64 KB Flash, 10 KB Internal RAM, 51 I/Os, 64-pin LQFP, -40 to 85 degC, Tray; PartNumber: STM32F101R8T6; A/D Converter: 1x12-bit (16 Channel); FLASH Size (Prog) (kB): 64; I/Os (High Current): 51; Internal RAM Size (kB): 10; Operating Frequency(F) (Processor speed) (MHz): 36; Supply Voltage(Vcc) min (V): 2; DatasheetVersion: Rev. 16; PackageVersion: Rev. 4, 06/2013; PackageReference: LQFP64; PackageDescription: 64-Pin Low Profile Quad Flat Package, 10 x 10 mm Body, 0.5 mm Pitch; Supplier 1: Digi-Key; Supplier Part Number 1: 497-6058-ND; Supplier 2: Farnell; Supplier Part Number 2: 1447630; Supplier 3: Newark; Supplier Part Number 3: 59M2178; Supplier 4: Mouser; Supplier Part Number 4: 511-STM32F101R8T6; Core: ARM Cortex-M3; Packing: Tray; Mounting Technology: Surface Mount; ComponentLink1Description: Manufacturer URL; ComponentLink1URL: http://www.st.com/web/en/home.html; ComponentLink2Description: Datasheet; ComponentLink2URL: http://www.st.com/st-web-ui/static/active/en/resource/technical/document/datasheet/CD00161561.pdf; ComponentLink3Description: Package Specification; ComponentLink3URL: http://www.st.com/st-web-ui/static/active/en/resource/technical/document/datasheet/DM00037051.pdf
footprint STM-LQFP64_N (Thin QFP, 64-Leads, Body 10x10mm, Pitch 0.5mm, IPC Medium Density)
footprint STM-LQFP64_L (Thin QFP, 64-Leads, Body 10x10mm, Pitch 0.5mm, IPC High Density)
footprint STM-LQFP64_M (Thin QFP, 64-Leads, Body 10x10mm, Pitch 0.5mm, IPC Low Density)
footprint STM-LQFP64_V (Thin QFP, 64-Leads, Body 10x10mm, Pitch 0.5mm, ST Recommended)
part A pins: 2 PC13-TAMPER-RTC (io) "PC13-TAMPER-RTC/PC13/TAMPER-RTC", 3 PC14-OSC32_IN (io) "PC14-OSC32_IN/PC14/OSC32_IN", 4 PC15-OSC32_OUT (io) "PC15-OSC32_OUT/PC15/OSC32_OUT", 5 PD0-OSC_IN (io) "PD0/OSC_IN", 6 PD1-OSC_OUT (io) "PD1/OSC_OUT", 7 NRST (io), 8 PC0 (io) "PC0/ADC_IN10", 9 PC1 (io) "PC1/ADC_IN11", 10 PC2 (io) "PC2/ADC_IN12", 11 PC3 (io) "PC3/ADC_IN13", 14 PA0-WKUP (io) "PA0-WKUP/PA0/WKUP/USART2_CTS/ADC_IN0/TIM2_CH1_ETR", 15 PA1 (io) "PA1/USART2_RTS/ADC_IN1/TIM2_CH2", 16 PA2 (io) "PA2/USART2_TX/ADC_IN2/TIM2_CH3", 17 PA3 (io) "PA3/USART2_RX/ADC_IN3/TIM2_CH4", 20 PA4 (io) "PA4/SPI1_NSS/ADC_IN4/USART2_CK", 21 PA5 (io) "PA5/SPI1_SCK/ADC_IN5", 22 PA6 (io) "PA6/SPI1_MISO/ADC_IN6/TIM3_CH1", 23 PA7 (io) "PA7/SPI1_MOSI/ADC_IN7/TIM3_CH2", 24 PC4 (io) "PC4/ADC_IN14", 25 PC5 (io) "PC5/ADC_IN15", 26 PB0 (io) "PB0/ADC_IN8/TIM3_CH3", 27 PB1 (io) "PB1/ADC_IN9/TIM3_CH4", 28 PB2 (io) "PB2/BOOT1", 29 PB10 (io) "PB10/I2C2_SCL/USART3_TX/TIM2_CH3", 30 PB11 (io) "PB11/I2C2_SDA/USART3_RX/TIM2_CH4", 33 PB12 (io) "PB12/SPI2_NSS/I2C2_SMBA/USART3_CK", 34 PB13 (io) "PB13/SPI2_SCK/USART3_CTS", 35 PB14 (io) "PB14/SPI2_MISO/USART3_RTS", 36 PB15 (io) "PB15/SPI2_MOSI", 37 PC6 (io) "PC6/TIM3_CH1", 38 PC7 (io) "PC7/TIM3_CH2", 39 PC8 (io) "PC8/TIM3_CH3", 40 PC9 (io) "PC9/TIM3_CH4", 41 PA8 (io) "PA8/USART1_CK/MCO", 42 PA9 (io) "PA9/USART1_TX", 43 PA10 (io) "PA10/USART1_RX", 44 PA11 (io) "PA11/USART1_CTS", 45 PA12 (io) "PA12/USART1_RTS", 46 PA13 (io) "PA13/JTMS-SWDIO", 49 PA14 (io) "PA14/JTCK/SWCLK", 50 PA15 (io) "PA15/JTDI/TIM2_CH1_ETR/SPI1_NSS", 51 PC10 (io) "PC10/USART3_TX", 52 PC11 (io) "PC11/USART3_RX", 53 PC12 (io) "PC12/USART3_CK", 54 PD2 (io) "PD2/TIM3_ETR", 55 PB3 (io) "PB3/JTDO/TIM2_CH2/TRACESWO/SPI1_SCK", 56 PB4 (io) "PB4/NJTRST/TIM3_CH1/SPI1_MISO", 57 PB5 (io) "PB5/I2C1_SMBAI/TIM3_CH2/SPI1_MOSI", 58 PB6 (io) "PB6/I2C1_SCL/TIM4_CH1/USART1_TX", 59 PB7 (io) "PB7/I2C1_SDA/TIM4_CH2/USART1_RX", 60 BOOT0 (in), 61 PB8 (io) "PB8/TIM4_CH3/I2C1_SCL", 62 PB9 (io) "PB9/TIM4_CH4/I2C1_SDA"
part B pins: 1 VBAT (power), 12 VSSA (power), 13 VDDA (power), 18 VSS_4 (power), 19 VDD_4 (power), 31 VSS_1 (power), 32 VDD_1 (power), 47 VSS_2 (power), 48 VDD_2 (power), 63 VSS_3 (power), 64 VDD_3 (power)

## STM32F101R8T6TR
designator U?
ARM Cortex-M3 32-bit MCU, 64 KB Flash, 10 KB Internal RAM, 51 I/Os, 64-pin LQFP, -40 to 85 degC, Tape and Reel; PartNumber: STM32F101R8T6TR; A/D Converter: 1x12-bit (16 Channel); FLASH Size (Prog) (kB): 64; I/Os (High Current): 51; Internal RAM Size (kB): 10; Operating Frequency(F) (Processor speed) (MHz): 36; Supply Voltage(Vcc) min (V): 2; DatasheetVersion: Rev. 16; PackageVersion: Rev. 4, 06/2013; PackageReference: LQFP64; PackageDescription: 64-Pin Low Profile Quad Flat Package, 10 x 10 mm Body, 0.5 mm Pitch; Supplier 1: Digi-Key; Supplier Part Number 1: STM32F101R8T6TR-ND; Supplier 2: Mouser; Supplier Part Number 2: 511-STM32F101R8T6TR; Core: ARM Cortex-M3; Packing: Tape and Reel; Mounting Technology: Surface Mount; ComponentLink1Description: Manufacturer URL; ComponentLink1URL: http://www.st.com/web/en/home.html; ComponentLink2Description: Datasheet; ComponentLink2URL: http://www.st.com/st-web-ui/static/active/en/resource/technical/document/datasheet/CD00161561.pdf; ComponentLink3Description: Package Specification; ComponentLink3URL: http://www.st.com/st-web-ui/static/active/en/resource/technical/document/datasheet/DM00037051.pdf
footprint STM-LQFP64_N (Thin QFP, 64-Leads, Body 10x10mm, Pitch 0.5mm, IPC Medium Density)
footprint STM-LQFP64_L (Thin QFP, 64-Leads, Body 10x10mm, Pitch 0.5mm, IPC High Density)
footprint STM-LQFP64_M (Thin QFP, 64-Leads, Body 10x10mm, Pitch 0.5mm, IPC Low Density)
footprint STM-LQFP64_V (Thin QFP, 64-Leads, Body 10x10mm, Pitch 0.5mm, ST Recommended)
part A pins: 2 PC13-TAMPER-RTC (io) "PC13-TAMPER-RTC/PC13/TAMPER-RTC", 3 PC14-OSC32_IN (io) "PC14-OSC32_IN/PC14/OSC32_IN", 4 PC15-OSC32_OUT (io) "PC15-OSC32_OUT/PC15/OSC32_OUT", 5 PD0-OSC_IN (io) "PD0/OSC_IN", 6 PD1-OSC_OUT (io) "PD1/OSC_OUT", 7 NRST (io), 8 PC0 (io) "PC0/ADC_IN10", 9 PC1 (io) "PC1/ADC_IN11", 10 PC2 (io) "PC2/ADC_IN12", 11 PC3 (io) "PC3/ADC_IN13", 14 PA0-WKUP (io) "PA0-WKUP/PA0/WKUP/USART2_CTS/ADC_IN0/TIM2_CH1_ETR", 15 PA1 (io) "PA1/USART2_RTS/ADC_IN1/TIM2_CH2", 16 PA2 (io) "PA2/USART2_TX/ADC_IN2/TIM2_CH3", 17 PA3 (io) "PA3/USART2_RX/ADC_IN3/TIM2_CH4", 20 PA4 (io) "PA4/SPI1_NSS/ADC_IN4/USART2_CK", 21 PA5 (io) "PA5/SPI1_SCK/ADC_IN5", 22 PA6 (io) "PA6/SPI1_MISO/ADC_IN6/TIM3_CH1", 23 PA7 (io) "PA7/SPI1_MOSI/ADC_IN7/TIM3_CH2", 24 PC4 (io) "PC4/ADC_IN14", 25 PC5 (io) "PC5/ADC_IN15", 26 PB0 (io) "PB0/ADC_IN8/TIM3_CH3", 27 PB1 (io) "PB1/ADC_IN9/TIM3_CH4", 28 PB2 (io) "PB2/BOOT1", 29 PB10 (io) "PB10/I2C2_SCL/USART3_TX/TIM2_CH3", 30 PB11 (io) "PB11/I2C2_SDA/USART3_RX/TIM2_CH4", 33 PB12 (io) "PB12/SPI2_NSS/I2C2_SMBA/USART3_CK", 34 PB13 (io) "PB13/SPI2_SCK/USART3_CTS", 35 PB14 (io) "PB14/SPI2_MISO/USART3_RTS", 36 PB15 (io) "PB15/SPI2_MOSI", 37 PC6 (io) "PC6/TIM3_CH1", 38 PC7 (io) "PC7/TIM3_CH2", 39 PC8 (io) "PC8/TIM3_CH3", 40 PC9 (io) "PC9/TIM3_CH4", 41 PA8 (io) "PA8/USART1_CK/MCO", 42 PA9 (io) "PA9/USART1_TX", 43 PA10 (io) "PA10/USART1_RX", 44 PA11 (io) "PA11/USART1_CTS", 45 PA12 (io) "PA12/USART1_RTS", 46 PA13 (io) "PA13/JTMS-SWDIO", 49 PA14 (io) "PA14/JTCK/SWCLK", 50 PA15 (io) "PA15/JTDI/TIM2_CH1_ETR/SPI1_NSS", 51 PC10 (io) "PC10/USART3_TX", 52 PC11 (io) "PC11/USART3_RX", 53 PC12 (io) "PC12/USART3_CK", 54 PD2 (io) "PD2/TIM3_ETR", 55 PB3 (io) "PB3/JTDO/TIM2_CH2/TRACESWO/SPI1_SCK", 56 PB4 (io) "PB4/NJTRST/TIM3_CH1/SPI1_MISO", 57 PB5 (io) "PB5/I2C1_SMBAI/TIM3_CH2/SPI1_MOSI", 58 PB6 (io) "PB6/I2C1_SCL/TIM4_CH1/USART1_TX", 59 PB7 (io) "PB7/I2C1_SDA/TIM4_CH2/USART1_RX", 60 BOOT0 (in), 61 PB8 (io) "PB8/TIM4_CH3/I2C1_SCL", 62 PB9 (io) "PB9/TIM4_CH4/I2C1_SDA"
part B pins: 1 VBAT (power), 12 VSSA (power), 13 VDDA (power), 18 VSS_4 (power), 19 VDD_4 (power), 31 VSS_1 (power), 32 VDD_1 (power), 47 VSS_2 (power), 48 VDD_2 (power), 63 VSS_3 (power), 64 VDD_3 (power)

## STM32F101RBT6
designator U?
ARM Cortex-M3 32-bit MCU, 128 KB Flash, 16 KB Internal RAM, 51 I/Os, 64-pin LQFP, -40 to 85 degC, Tray; PartNumber: STM32F101RBT6; A/D Converter: 1x12-bit (16 Channel); FLASH Size (Prog) (kB): 128; I/Os (High Current): 51; Internal RAM Size (kB): 16; Operating Frequency(F) (Processor speed) (MHz): 36; Supply Voltage(Vcc) min (V): 2; DatasheetVersion: Rev. 16; PackageVersion: Rev. 4, 06/2013; PackageReference: LQFP64; PackageDescription: 64-Pin Low Profile Quad Flat Package, 10 x 10 mm Body, 0.5 mm Pitch; Supplier 1: Digi-Key; Supplier Part Number 1: 497-6059-ND; Supplier 2: Farnell; Supplier Part Number 2: 1447632; Supplier 3: Newark; Supplier Part Number 3: 59M2176; Supplier 4: Mouser; Supplier Part Number 4: 511-STM32F101RBT6; Core: ARM Cortex-M3; Packing: Tray; Mounting Technology: Surface Mount; ComponentLink1Description: Manufacturer URL; ComponentLink1URL: http://www.st.com/web/en/home.html; ComponentLink2Description: Datasheet; ComponentLink2URL: http://www.st.com/st-web-ui/static/active/en/resource/technical/document/datasheet/CD00161561.pdf; ComponentLink3Description: Package Specification; ComponentLink3URL: http://www.st.com/st-web-ui/static/active/en/resource/technical/document/datasheet/DM00037051.pdf
footprint STM-LQFP64_N (Thin QFP, 64-Leads, Body 10x10mm, Pitch 0.5mm, IPC Medium Density)
footprint STM-LQFP64_L (Thin QFP, 64-Leads, Body 10x10mm, Pitch 0.5mm, IPC High Density)
footprint STM-LQFP64_M (Thin QFP, 64-Leads, Body 10x10mm, Pitch 0.5mm, IPC Low Density)
footprint STM-LQFP64_V (Thin QFP, 64-Leads, Body 10x10mm, Pitch 0.5mm, ST Recommended)
part A pins: 2 PC13-TAMPER-RTC (io) "PC13-TAMPER-RTC/PC13/TAMPER-RTC", 3 PC14-OSC32_IN (io) "PC14-OSC32_IN/PC14/OSC32_IN", 4 PC15-OSC32_OUT (io) "PC15-OSC32_OUT/PC15/OSC32_OUT", 5 PD0-OSC_IN (io) "PD0/OSC_IN", 6 PD1-OSC_OUT (io) "PD1/OSC_OUT", 7 NRST (io), 8 PC0 (io) "PC0/ADC_IN10", 9 PC1 (io) "PC1/ADC_IN11", 10 PC2 (io) "PC2/ADC_IN12", 11 PC3 (io) "PC3/ADC_IN13", 14 PA0-WKUP (io) "PA0-WKUP/PA0/WKUP/USART2_CTS/ADC_IN0/TIM2_CH1_ETR", 15 PA1 (io) "PA1/USART2_RTS/ADC_IN1/TIM2_CH2", 16 PA2 (io) "PA2/USART2_TX/ADC_IN2/TIM2_CH3", 17 PA3 (io) "PA3/USART2_RX/ADC_IN3/TIM2_CH4", 20 PA4 (io) "PA4/SPI1_NSS/ADC_IN4/USART2_CK", 21 PA5 (io) "PA5/SPI1_SCK/ADC_IN5", 22 PA6 (io) "PA6/SPI1_MISO/ADC_IN6/TIM3_CH1", 23 PA7 (io) "PA7/SPI1_MOSI/ADC_IN7/TIM3_CH2", 24 PC4 (io) "PC4/ADC_IN14", 25 PC5 (io) "PC5/ADC_IN15", 26 PB0 (io) "PB0/ADC_IN8/TIM3_CH3", 27 PB1 (io) "PB1/ADC_IN9/TIM3_CH4", 28 PB2 (io) "PB2/BOOT1", 29 PB10 (io) "PB10/I2C2_SCL/USART3_TX/TIM2_CH3", 30 PB11 (io) "PB11/I2C2_SDA/USART3_RX/TIM2_CH4", 33 PB12 (io) "PB12/SPI2_NSS/I2C2_SMBA/USART3_CK", 34 PB13 (io) "PB13/SPI2_SCK/USART3_CTS", 35 PB14 (io) "PB14/SPI2_MISO/USART3_RTS", 36 PB15 (io) "PB15/SPI2_MOSI", 37 PC6 (io) "PC6/TIM3_CH1", 38 PC7 (io) "PC7/TIM3_CH2", 39 PC8 (io) "PC8/TIM3_CH3", 40 PC9 (io) "PC9/TIM3_CH4", 41 PA8 (io) "PA8/USART1_CK/MCO", 42 PA9 (io) "PA9/USART1_TX", 43 PA10 (io) "PA10/USART1_RX", 44 PA11 (io) "PA11/USART1_CTS", 45 PA12 (io) "PA12/USART1_RTS", 46 PA13 (io) "PA13/JTMS-SWDIO", 49 PA14 (io) "PA14/JTCK/SWCLK", 50 PA15 (io) "PA15/JTDI/TIM2_CH1_ETR/SPI1_NSS", 51 PC10 (io) "PC10/USART3_TX", 52 PC11 (io) "PC11/USART3_RX", 53 PC12 (io) "PC12/USART3_CK", 54 PD2 (io) "PD2/TIM3_ETR", 55 PB3 (io) "PB3/JTDO/TIM2_CH2/TRACESWO/SPI1_SCK", 56 PB4 (io) "PB4/NJTRST/TIM3_CH1/SPI1_MISO", 57 PB5 (io) "PB5/I2C1_SMBAI/TIM3_CH2/SPI1_MOSI", 58 PB6 (io) "PB6/I2C1_SCL/TIM4_CH1/USART1_TX", 59 PB7 (io) "PB7/I2C1_SDA/TIM4_CH2/USART1_RX", 60 BOOT0 (in), 61 PB8 (io) "PB8/TIM4_CH3/I2C1_SCL", 62 PB9 (io) "PB9/TIM4_CH4/I2C1_SDA"
part B pins: 1 VBAT (power), 12 VSSA (power), 13 VDDA (power), 18 VSS_4 (power), 19 VDD_4 (power), 31 VSS_1 (power), 32 VDD_1 (power), 47 VSS_2 (power), 48 VDD_2 (power), 63 VSS_3 (power), 64 VDD_3 (power)

## STM32F101RBT6TR
designator U?
ARM Cortex-M3 32-bit MCU, 128 KB Flash, 16 KB Internal RAM, 51 I/Os, 64-pin LQFP, -40 to 85 degC, Tape and Reel; PartNumber: STM32F101RBT6TR; A/D Converter: 1x12-bit (16 Channel); FLASH Size (Prog) (kB): 128; I/Os (High Current): 51; Internal RAM Size (kB): 16; Operating Frequency(F) (Processor speed) (MHz): 36; Supply Voltage(Vcc) min (V): 2; DatasheetVersion: Rev. 16; PackageVersion: Rev. 4, 06/2013; PackageReference: LQFP64; PackageDescription: 64-Pin Low Profile Quad Flat Package, 10 x 10 mm Body, 0.5 mm Pitch; Supplier 1: Digi-Key; Supplier Part Number 1: STM32F101RBT6TR-ND; Supplier 2: Newark; Supplier Part Number 2: 09R6013; Supplier 3: Mouser; Supplier Part Number 3: 511-STM32F101RBT6TR; Core: ARM Cortex-M3; Packing: Tape and Reel; Mounting Technology: Surface Mount; ComponentLink1Description: Manufacturer URL; ComponentLink1URL: http://www.st.com/web/en/home.html; ComponentLink2Description: Datasheet; ComponentLink2URL: http://www.st.com/st-web-ui/static/active/en/resource/technical/document/datasheet/CD00161561.pdf; ComponentLink3Description: Package Specification; ComponentLink3URL: http://www.st.com/st-web-ui/static/active/en/resource/technical/document/datasheet/DM00037051.pdf
footprint STM-LQFP64_N (Thin QFP, 64-Leads, Body 10x10mm, Pitch 0.5mm, IPC Medium Density)
footprint STM-LQFP64_L (Thin QFP, 64-Leads, Body 10x10mm, Pitch 0.5mm, IPC High Density)
footprint STM-LQFP64_M (Thin QFP, 64-Leads, Body 10x10mm, Pitch 0.5mm, IPC Low Density)
footprint STM-LQFP64_V (Thin QFP, 64-Leads, Body 10x10mm, Pitch 0.5mm, ST Recommended)
part A pins: 2 PC13-TAMPER-RTC (io) "PC13-TAMPER-RTC/PC13/TAMPER-RTC", 3 PC14-OSC32_IN (io) "PC14-OSC32_IN/PC14/OSC32_IN", 4 PC15-OSC32_OUT (io) "PC15-OSC32_OUT/PC15/OSC32_OUT", 5 PD0-OSC_IN (io) "PD0/OSC_IN", 6 PD1-OSC_OUT (io) "PD1/OSC_OUT", 7 NRST (io), 8 PC0 (io) "PC0/ADC_IN10", 9 PC1 (io) "PC1/ADC_IN11", 10 PC2 (io) "PC2/ADC_IN12", 11 PC3 (io) "PC3/ADC_IN13", 14 PA0-WKUP (io) "PA0-WKUP/PA0/WKUP/USART2_CTS/ADC_IN0/TIM2_CH1_ETR", 15 PA1 (io) "PA1/USART2_RTS/ADC_IN1/TIM2_CH2", 16 PA2 (io) "PA2/USART2_TX/ADC_IN2/TIM2_CH3", 17 PA3 (io) "PA3/USART2_RX/ADC_IN3/TIM2_CH4", 20 PA4 (io) "PA4/SPI1_NSS/ADC_IN4/USART2_CK", 21 PA5 (io) "PA5/SPI1_SCK/ADC_IN5", 22 PA6 (io) "PA6/SPI1_MISO/ADC_IN6/TIM3_CH1", 23 PA7 (io) "PA7/SPI1_MOSI/ADC_IN7/TIM3_CH2", 24 PC4 (io) "PC4/ADC_IN14", 25 PC5 (io) "PC5/ADC_IN15", 26 PB0 (io) "PB0/ADC_IN8/TIM3_CH3", 27 PB1 (io) "PB1/ADC_IN9/TIM3_CH4", 28 PB2 (io) "PB2/BOOT1", 29 PB10 (io) "PB10/I2C2_SCL/USART3_TX/TIM2_CH3", 30 PB11 (io) "PB11/I2C2_SDA/USART3_RX/TIM2_CH4", 33 PB12 (io) "PB12/SPI2_NSS/I2C2_SMBA/USART3_CK", 34 PB13 (io) "PB13/SPI2_SCK/USART3_CTS", 35 PB14 (io) "PB14/SPI2_MISO/USART3_RTS", 36 PB15 (io) "PB15/SPI2_MOSI", 37 PC6 (io) "PC6/TIM3_CH1", 38 PC7 (io) "PC7/TIM3_CH2", 39 PC8 (io) "PC8/TIM3_CH3", 40 PC9 (io) "PC9/TIM3_CH4", 41 PA8 (io) "PA8/USART1_CK/MCO", 42 PA9 (io) "PA9/USART1_TX", 43 PA10 (io) "PA10/USART1_RX", 44 PA11 (io) "PA11/USART1_CTS", 45 PA12 (io) "PA12/USART1_RTS", 46 PA13 (io) "PA13/JTMS-SWDIO", 49 PA14 (io) "PA14/JTCK/SWCLK", 50 PA15 (io) "PA15/JTDI/TIM2_CH1_ETR/SPI1_NSS", 51 PC10 (io) "PC10/USART3_TX", 52 PC11 (io) "PC11/USART3_RX", 53 PC12 (io) "PC12/USART3_CK", 54 PD2 (io) "PD2/TIM3_ETR", 55 PB3 (io) "PB3/JTDO/TIM2_CH2/TRACESWO/SPI1_SCK", 56 PB4 (io) "PB4/NJTRST/TIM3_CH1/SPI1_MISO", 57 PB5 (io) "PB5/I2C1_SMBAI/TIM3_CH2/SPI1_MOSI", 58 PB6 (io) "PB6/I2C1_SCL/TIM4_CH1/USART1_TX", 59 PB7 (io) "PB7/I2C1_SDA/TIM4_CH2/USART1_RX", 60 BOOT0 (in), 61 PB8 (io) "PB8/TIM4_CH3/I2C1_SCL", 62 PB9 (io) "PB9/TIM4_CH4/I2C1_SDA"
part B pins: 1 VBAT (power), 12 VSSA (power), 13 VDDA (power), 18 VSS_4 (power), 19 VDD_4 (power), 31 VSS_1 (power), 32 VDD_1 (power), 47 VSS_2 (power), 48 VDD_2 (power), 63 VSS_3 (power), 64 VDD_3 (power)

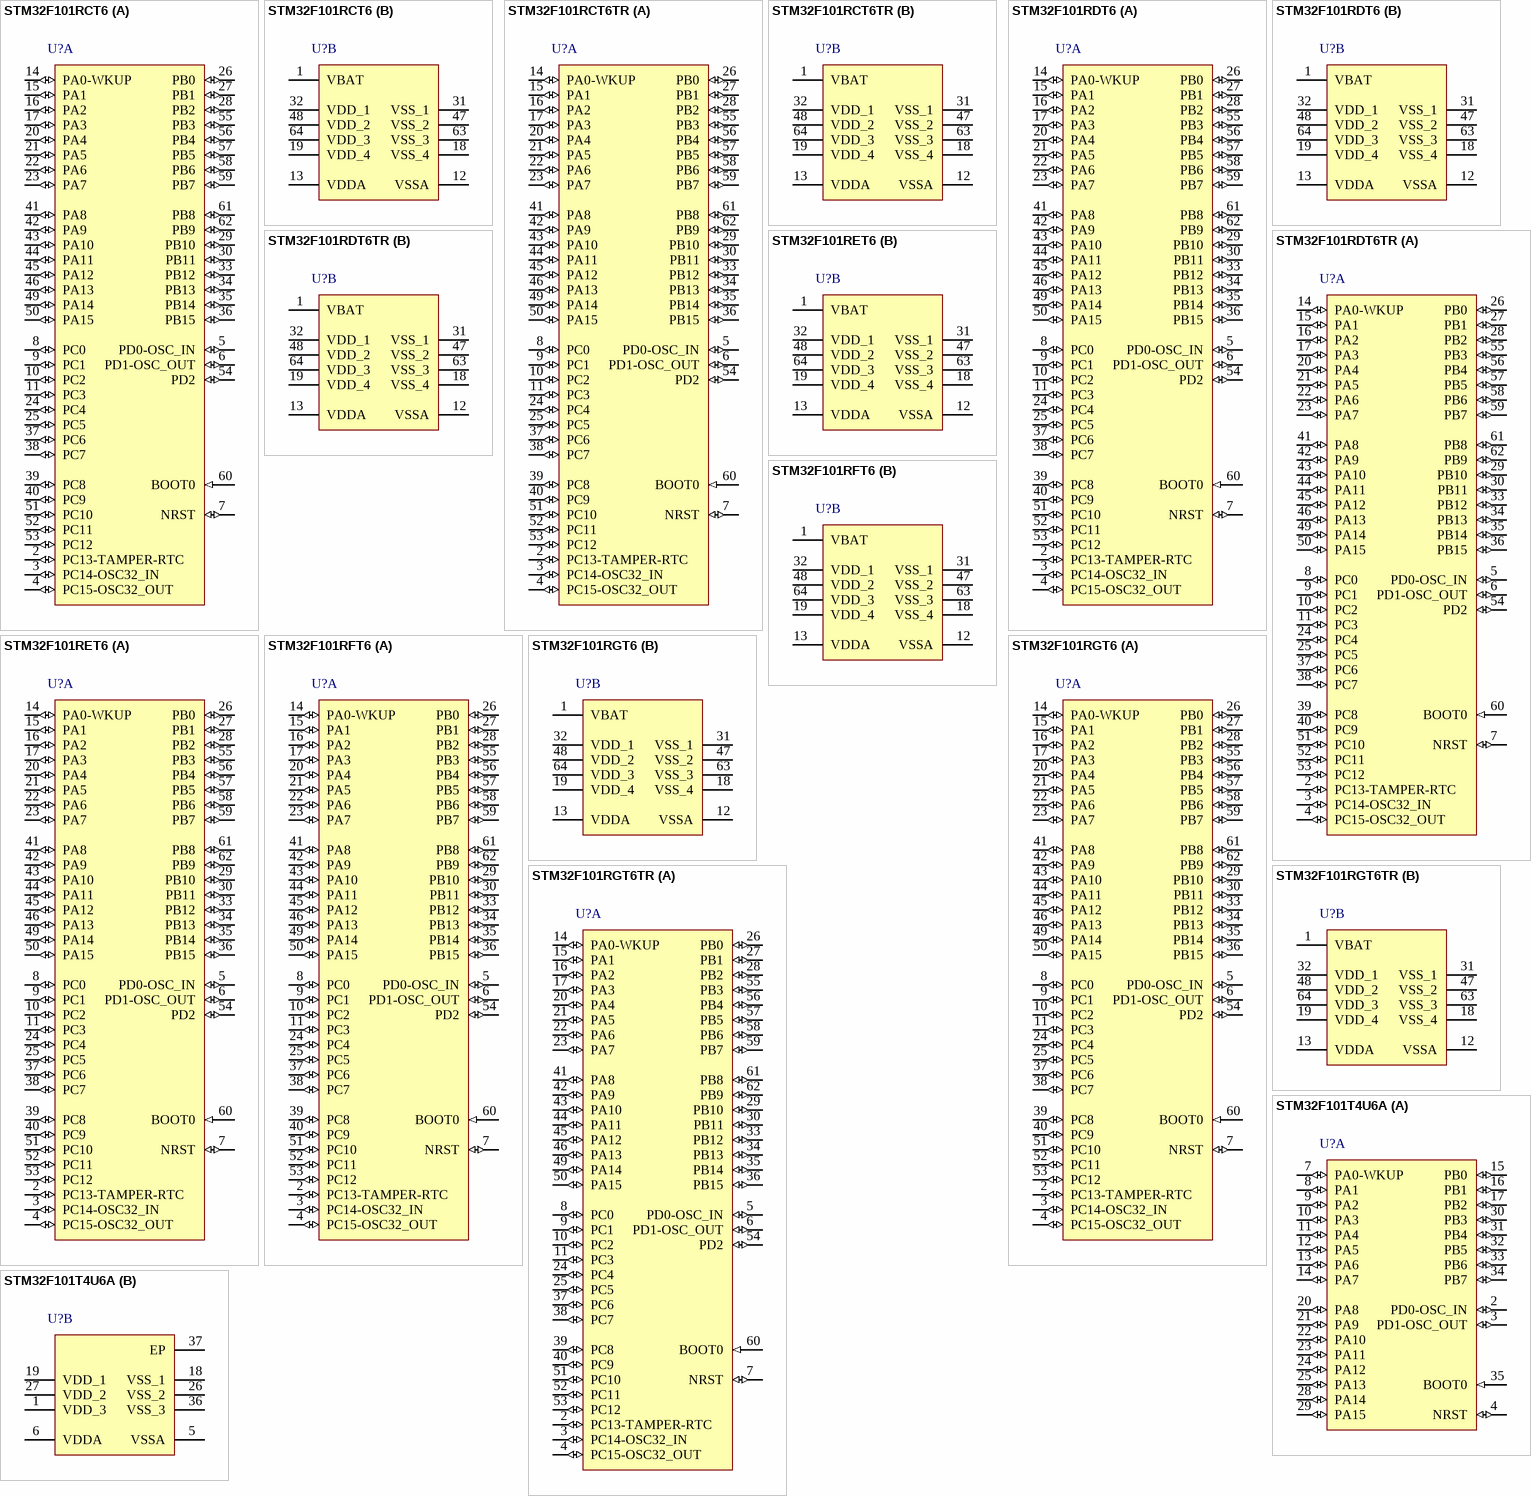
[diagram p17: symbols STM32F101RCT6 to STM32F101T4U6A]

## STM32F101RCT6
designator U?
ARM Cortex-M3 32-bit MCU, 256 KB Flash, 32 KB Internal RAM, 51 I/Os, 64-pin LQFP, -40 to 85 degC, Tray; PartNumber: STM32F101RCT6; A/D Converter: 1x12-bit (16 Channel); D/A Converter: 1x12-bit (2 Channel); FLASH Size (Prog) (kB): 256; I/Os (High Current): 51; Internal RAM Size (kB): 32; Operating Frequency(F) (Processor speed) (MHz): 36; Supply Voltage(Vcc) min (V): 2; DatasheetVersion: Rev. 8; PackageVersion: Rev. 4, 06/2013; PackageReference: LQFP64; PackageDescription: 64-Pin Low Profile Quad Flat Package, 10 x 10 mm Body, 0.5 mm Pitch; Supplier 1: Digi-Key; Supplier Part Number 1: 497-9031-ND; Supplier 2: Farnell; Supplier Part Number 2: 1624126; Supplier 3: Newark; Supplier Part Number 3: 01P4090; Supplier 4: Mouser; Supplier Part Number 4: 511-STM32F101RCT6; Core: ARM Cortex-M3; Packing: Tray; Mounting Technology: Surface Mount; ComponentLink1Description: Manufacturer URL; ComponentLink1URL: http://www.st.com/web/en/home.html; ComponentLink2Description: Datasheet; ComponentLink2URL: http://www.st.com/st-web-ui/static/active/en/resource/technical/document/datasheet/CD00191174.pdf; ComponentLink3Description: Package Specification; ComponentLink3URL: http://www.st.com/st-web-ui/static/active/en/resource/technical/document/datasheet/DM00037051.pdf
footprint STM-LQFP64_N (Thin QFP, 64-Leads, Body 10x10mm, Pitch 0.5mm, IPC Medium Density)
footprint STM-LQFP64_L (Thin QFP, 64-Leads, Body 10x10mm, Pitch 0.5mm, IPC High Density)
footprint STM-LQFP64_M (Thin QFP, 64-Leads, Body 10x10mm, Pitch 0.5mm, IPC Low Density)
footprint STM-LQFP64_V (Thin QFP, 64-Leads, Body 10x10mm, Pitch 0.5mm, ST Recommended)
part A pins: 2 PC13-TAMPER-RTC (io) "PC13-TAMPER-RTC/PC13/TAMPER-RTC", 3 PC14-OSC32_IN (io) "PC14-OSC32_IN/PC14/OSC32_IN", 4 PC15-OSC32_OUT (io) "PC15-OSC32_OUT/PC15/OSC32_OUT", 5 PD0-OSC_IN (io) "PD0/OSC_IN", 6 PD1-OSC_OUT (io) "PD1/OSC_OUT", 7 NRST (io), 8 PC0 (io) "PC0/ADC_IN10", 9 PC1 (io) "PC1/ADC_IN11", 10 PC2 (io) "PC2/ADC_IN12", 11 PC3 (io) "PC3/ADC_IN13", 14 PA0-WKUP (io) "PA0-WKUP/PA0/WKUP/USART2_CTS/ADC_IN0/TIM5_CH1/TIM2_CH1_ETR", 15 PA1 (io) "PA1/USART2_RTS/ADC_IN1/TIM5_CH2/TIM2_CH2", 16 PA2 (io) "PA2/USART2_TX/TIM5_CH3/ADC_IN2/TIM2_CH3", 17 PA3 (io) "PA3/USART2_RX/TIM5_CH4/ADC_IN3/TIM2_CH4", 20 PA4 (io) "PA4/SPI1_NSS/DAC_OUT1/ADC_IN4/USART2_CK", 21 PA5 (io) "PA5/SPI1_SCK/DAC_OUT2/ADC_IN5", 22 PA6 (io) "PA6/SPI1_MISO/ADC_IN6/TIM3_CH1", 23 PA7 (io) "PA7/SPI1_MOSI/ADC_IN7/TIM3_CH2", 24 PC4 (io) "PC4/ADC_IN14", 25 PC5 (io) "PC5/ADC_IN15", 26 PB0 (io) "PB0/ADC_IN8/TIM3_CH3", 27 PB1 (io) "PB1/ADC_IN9/TIM3_CH4", 28 PB2 (io) "PB2/BOOT1", 29 PB10 (io) "PB10/I2C2_SCL/USART3_TX/TIM2_CH3", 30 PB11 (io) "PB11/I2C2_SDA/USART3_RX/TIM2_CH4", 33 PB12 (io) "PB12/SPI2_NSS/I2C2_SMBA/USART3_CK", 34 PB13 (io) "PB13/SPI2_SCK/USART3_CTS", 35 PB14 (io) "PB14/SPI2_MISO/USART3_RTS", 36 PB15 (io) "PB15/SPI2_MOSI", 37 PC6 (io) "PC6/TIM3_CH1", 38 PC7 (io) "PC7/TIM3_CH2", 39 PC8 (io) "PC8/TIM3_CH3", 40 PC9 (io) "PC9/TIM3_CH4", 41 PA8 (io) "PA8/USART1_CK/MCO", 42 PA9 (io) "PA9/USART1_TX", 43 PA10 (io) "PA10/USART1_RX", 44 PA11 (io) "PA11/USART1_CTS", 45 PA12 (io) "PA12/USART1_RTS", 46 PA13 (io) "PA13/JTMS-SWDIO", 49 PA14 (io) "PA14/JTCK-SWCLK", 50 PA15 (io) "PA15/JTDI/SPI3_NSS/TIM2_CH1_ETR/SPI1_NSS", 51 PC10 (io) "PC10/UART4_TX/USART3_TX", 52 PC11 (io) "PC11/UART4_RX/USART3_RX", 53 PC12 (io) "PC12/UART5_TX/USART3_CK", 54 PD2 (io) "PD2/TIM3_ETR/UART5_RX", 55 PB3 (io) "PB3/JTDO/SPI3_SCK/TIM2_CH2/TRACESWO/SPI1_SCK", 56 PB4 (io) "PB4/NJTRST/SPI3_MISO/TIM3_CH1/SPI1_MISO", 57 PB5 (io) "PB5/I2C1_SMBA/SPI3_MOSI/TIM3_CH2/SPI1_MOSI", 58 PB6 (io) "PB6/I2C1_SCL/TIM4_CH1/USART1_TX", 59 PB7 (io) "PB7/I2C1_SDA/TIM4_CH2/USART1_RX", 60 BOOT0 (in), 61 PB8 (io) "PB8/TIM4_CH3/I2C1_SCL", 62 PB9 (io) "PB9/TIM4_CH4/I2C1_SDA"
part B pins: 1 VBAT (power), 12 VSSA (power), 13 VDDA (power), 18 VSS_4 (power), 19 VDD_4 (power), 31 VSS_1 (power), 32 VDD_1 (power), 47 VSS_2 (power), 48 VDD_2 (power), 63 VSS_3 (power), 64 VDD_3 (power)

## STM32F101RCT6TR
designator U?
ARM Cortex-M3 32-bit MCU, 256 KB Flash, 32 KB Internal RAM, 51 I/Os, 64-pin LQFP, -40 to 85 degC, Tape and Reel; PartNumber: STM32F101RCT6TR; A/D Converter: 1x12-bit (16 Channel); D/A Converter: 1x12-bit (2 Channel); FLASH Size (Prog) (kB): 256; I/Os (High Current): 51; Internal RAM Size (kB): 32; Operating Frequency(F) (Processor speed) (MHz): 36; Supply Voltage(Vcc) min (V): 2; DatasheetVersion: Rev. 8; PackageVersion: Rev. 4, 06/2013; PackageReference: LQFP64; PackageDescription: 64-Pin Low Profile Quad Flat Package, 10 x 10 mm Body, 0.5 mm Pitch; Supplier 1: Digi-Key; Supplier Part Number 1: STM32F101RCT6TR-ND; Supplier 2: Mouser; Supplier Part Number 2: 511-STM32F101RCT6TR; Core: ARM Cortex-M3; Packing: Tape and Reel; Mounting Technology: Surface Mount; ComponentLink1Description: Manufacturer URL; ComponentLink1URL: http://www.st.com/web/en/home.html; ComponentLink2Description: Datasheet; ComponentLink2URL: http://www.st.com/st-web-ui/static/active/en/resource/technical/document/datasheet/CD00191174.pdf; ComponentLink3Description: Package Specification; ComponentLink3URL: http://www.st.com/st-web-ui/static/active/en/resource/technical/document/datasheet/DM00037051.pdf
footprint STM-LQFP64_N (Thin QFP, 64-Leads, Body 10x10mm, Pitch 0.5mm, IPC Medium Density)
footprint STM-LQFP64_L (Thin QFP, 64-Leads, Body 10x10mm, Pitch 0.5mm, IPC High Density)
footprint STM-LQFP64_M (Thin QFP, 64-Leads, Body 10x10mm, Pitch 0.5mm, IPC Low Density)
footprint STM-LQFP64_V (Thin QFP, 64-Leads, Body 10x10mm, Pitch 0.5mm, ST Recommended)
part A pins: 2 PC13-TAMPER-RTC (io) "PC13-TAMPER-RTC/PC13/TAMPER-RTC", 3 PC14-OSC32_IN (io) "PC14-OSC32_IN/PC14/OSC32_IN", 4 PC15-OSC32_OUT (io) "PC15-OSC32_OUT/PC15/OSC32_OUT", 5 PD0-OSC_IN (io) "PD0/OSC_IN", 6 PD1-OSC_OUT (io) "PD1/OSC_OUT", 7 NRST (io), 8 PC0 (io) "PC0/ADC_IN10", 9 PC1 (io) "PC1/ADC_IN11", 10 PC2 (io) "PC2/ADC_IN12", 11 PC3 (io) "PC3/ADC_IN13", 14 PA0-WKUP (io) "PA0-WKUP/PA0/WKUP/USART2_CTS/ADC_IN0/TIM5_CH1/TIM2_CH1_ETR", 15 PA1 (io) "PA1/USART2_RTS/ADC_IN1/TIM5_CH2/TIM2_CH2", 16 PA2 (io) "PA2/USART2_TX/TIM5_CH3/ADC_IN2/TIM2_CH3", 17 PA3 (io) "PA3/USART2_RX/TIM5_CH4/ADC_IN3/TIM2_CH4", 20 PA4 (io) "PA4/SPI1_NSS/DAC_OUT1/ADC_IN4/USART2_CK", 21 PA5 (io) "PA5/SPI1_SCK/DAC_OUT2/ADC_IN5", 22 PA6 (io) "PA6/SPI1_MISO/ADC_IN6/TIM3_CH1", 23 PA7 (io) "PA7/SPI1_MOSI/ADC_IN7/TIM3_CH2", 24 PC4 (io) "PC4/ADC_IN14", 25 PC5 (io) "PC5/ADC_IN15", 26 PB0 (io) "PB0/ADC_IN8/TIM3_CH3", 27 PB1 (io) "PB1/ADC_IN9/TIM3_CH4", 28 PB2 (io) "PB2/BOOT1", 29 PB10 (io) "PB10/I2C2_SCL/USART3_TX/TIM2_CH3", 30 PB11 (io) "PB11/I2C2_SDA/USART3_RX/TIM2_CH4", 33 PB12 (io) "PB12/SPI2_NSS/I2C2_SMBA/USART3_CK", 34 PB13 (io) "PB13/SPI2_SCK/USART3_CTS", 35 PB14 (io) "PB14/SPI2_MISO/USART3_RTS", 36 PB15 (io) "PB15/SPI2_MOSI", 37 PC6 (io) "PC6/TIM3_CH1", 38 PC7 (io) "PC7/TIM3_CH2", 39 PC8 (io) "PC8/TIM3_CH3", 40 PC9 (io) "PC9/TIM3_CH4", 41 PA8 (io) "PA8/USART1_CK/MCO", 42 PA9 (io) "PA9/USART1_TX", 43 PA10 (io) "PA10/USART1_RX", 44 PA11 (io) "PA11/USART1_CTS", 45 PA12 (io) "PA12/USART1_RTS", 46 PA13 (io) "PA13/JTMS-SWDIO", 49 PA14 (io) "PA14/JTCK-SWCLK", 50 PA15 (io) "PA15/JTDI/SPI3_NSS/TIM2_CH1_ETR/SPI1_NSS", 51 PC10 (io) "PC10/UART4_TX/USART3_TX", 52 PC11 (io) "PC11/UART4_RX/USART3_RX", 53 PC12 (io) "PC12/UART5_TX/USART3_CK", 54 PD2 (io) "PD2/TIM3_ETR/UART5_RX", 55 PB3 (io) "PB3/JTDO/SPI3_SCK/TIM2_CH2/TRACESWO/SPI1_SCK", 56 PB4 (io) "PB4/NJTRST/SPI3_MISO/TIM3_CH1/SPI1_MISO", 57 PB5 (io) "PB5/I2C1_SMBA/SPI3_MOSI/TIM3_CH2/SPI1_MOSI", 58 PB6 (io) "PB6/I2C1_SCL/TIM4_CH1/USART1_TX", 59 PB7 (io) "PB7/I2C1_SDA/TIM4_CH2/USART1_RX", 60 BOOT0 (in), 61 PB8 (io) "PB8/TIM4_CH3/I2C1_SCL", 62 PB9 (io) "PB9/TIM4_CH4/I2C1_SDA"
part B pins: 1 VBAT (power), 12 VSSA (power), 13 VDDA (power), 18 VSS_4 (power), 19 VDD_4 (power), 31 VSS_1 (power), 32 VDD_1 (power), 47 VSS_2 (power), 48 VDD_2 (power), 63 VSS_3 (power), 64 VDD_3 (power)